# Altium footprint library Connectors.PcbLib: 69 footprints (part 2 of 5)
Each footprint in its own frame and in the unit in brackets; x right, y up, seen from the top. Pads: shape width x height; smd on the part's side, far side on the other; paste and mask are expansions set on the pad; w line width, h text height; cw(c..) or ccw(c..) is an arc to the next point about the centre after c.
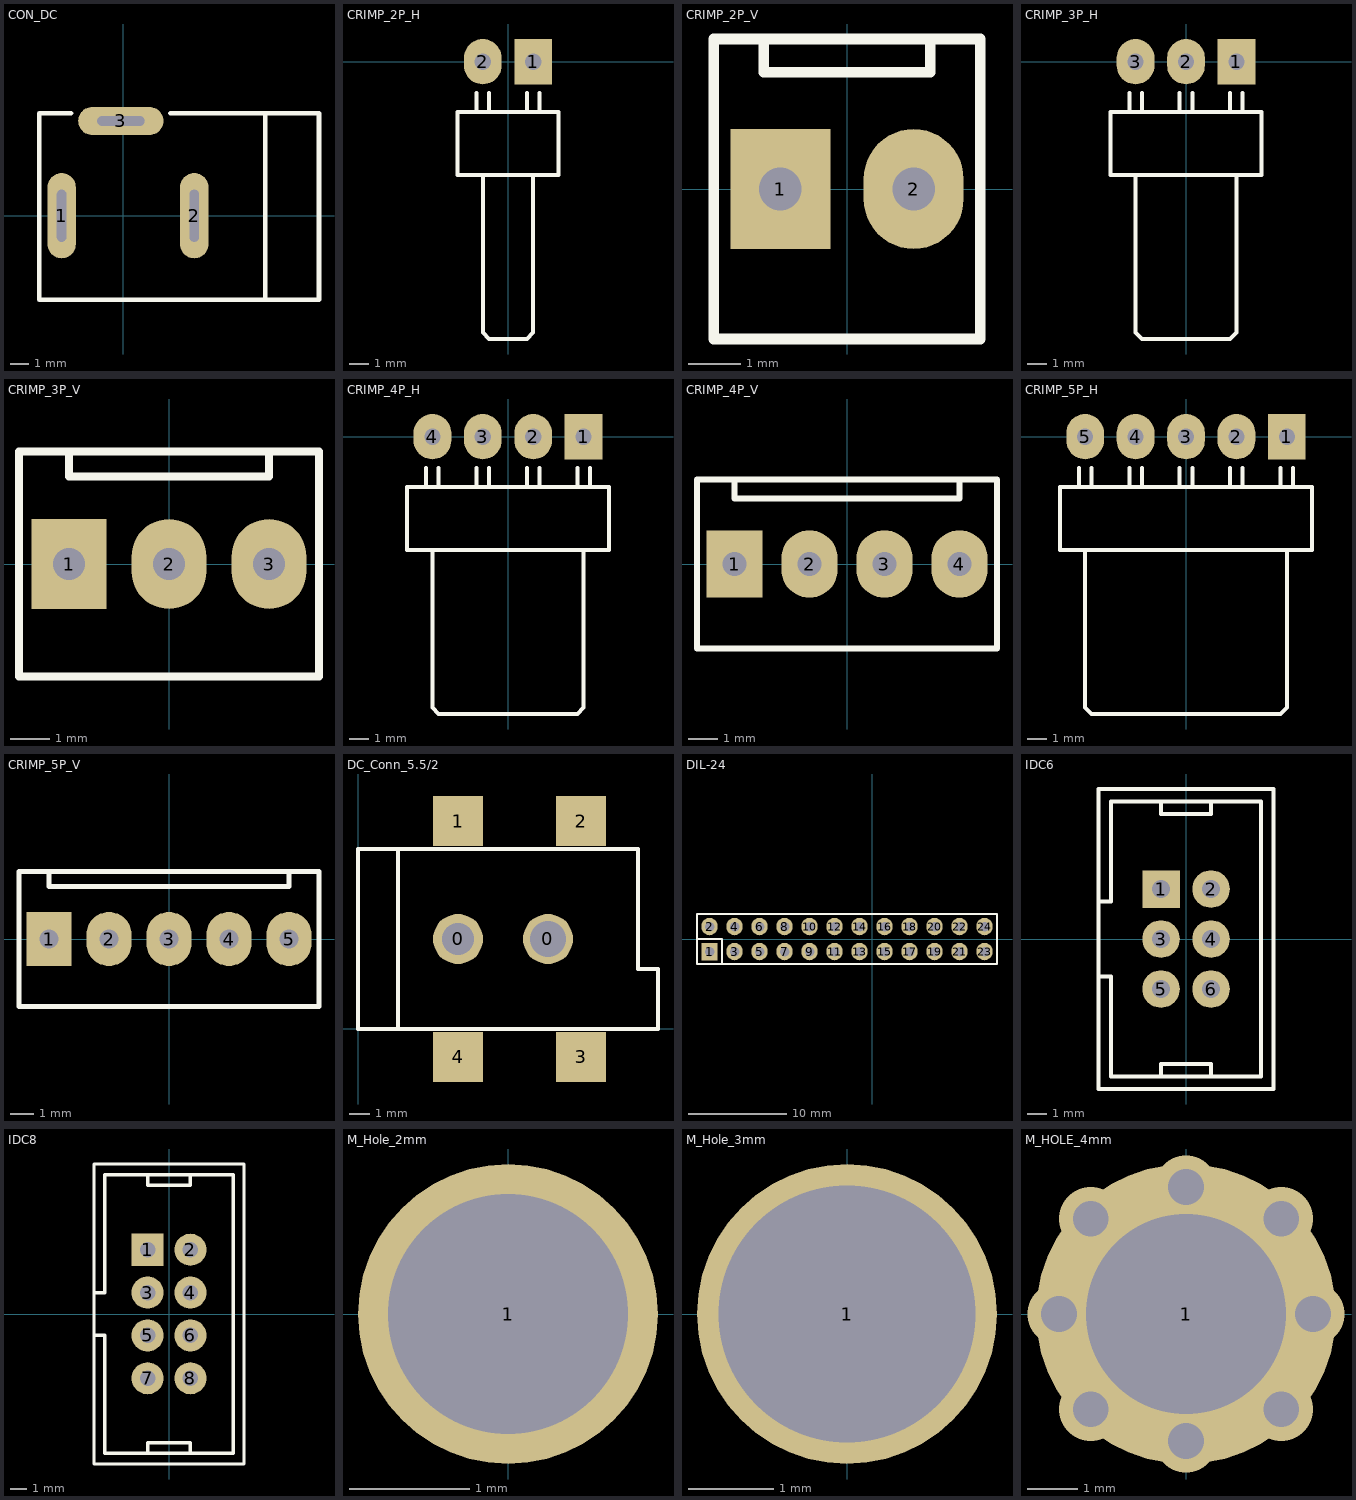
[diagram p1: the footprints below, top view; thin cyan lines are the x and y axes]

## CON_DC [mil] "Konektor DC"
height 450
pads (3):
  oval 60x180 hole 20 slot 110 at 90 deg: 1(-130,0) 2(150,0)
  oval 180x60 hole 20 slot 100 at 0 deg: 3(-5,200)
Top Overlay:
  lines w10: -110,216.54 -177.17,216.54 -177.17,-177.17 413.39,-177.17 413.39,216.54 100,216.54 ; 300,-177.17 300,216.54
3D body "2.1mm_DC_Power_Socket.STEP": height 423.23, standoff -157.48, extent -149.53,-171.89 409.53,210

## CRIMP_2P_H [mil] "Z³¹cze CRIMP 2pin - poziome"
height 230
pads (2):
  rect 75x90 hole 32: 1(50,0)
  oval 75x90 hole 32: 2(-50,0)
Top Overlay:
  lines w8: -62.5,-100 -62.5,-62.5 ; -50,-225 -50,-537.5 -37.5,-550 37.5,-550 50,-537.5 50,-225 ; -37.5,-100 -37.5,-62.5 ; 37.5,-100 37.5,-62.5 ; 62.5,-100 62.5,-62.5 ; -100,-225 -100,-100 100,-100 100,-225 -100,-225

## CRIMP_2P_V [mil] "Gniazdo Crimp 2pin, pionowe"
height 450
pads (2):
  rect 75x90 hole 32: 1(-50,0)
  oval 75x90 hole 32: 2(50,0)
Top Overlay:
  lines w8: -62.5,112.5 -62.5,87.5 62.5,87.5 62.5,112.5 ; -100,-112.5 100,-112.5 100,112.5 -100,112.5 -100,-112.5
3D body: height 437.5, standoff 412.5, extent 37.5,-12.45 62.37,12.45
3D body: height 437.5, standoff 412.5, extent -62.5,-12.45 -37.63,12.45
3D body: height 455, standoff 125, extent -62.5,87.5 62.5,112.5
3D body: height 125, standoff 0, extent -100,-112.5 100,112.5
3D body: height 425, standoff 125, extent -62.5,-12.5 -37.6,12.45
3D body: height 425, standoff 125, extent 37.5,-12.5 62.4,12.45

## CRIMP_3P_H [mil] "Z³acze CRIMP 3pin poziome"
height 230
pads (3):
  rect 75x90 hole 32: 1(100,0)
  oval 75x90 hole 32: 2(0,0) 3(-100,0)
Top Overlay:
  lines w8: -112.5,-100 -112.5,-62.5 ; -100,-225 -100,-537.5 -87.5,-550 87.5,-550 100,-537.5 100,-225 ; -87.5,-100 -87.5,-62.5 ; -12.5,-100 -12.5,-62.5 ; 12.5,-100 12.5,-62.5 ; 87.5,-100 87.5,-62.5 ; 112.5,-100 112.5,-62.5 ; -150,-225 150,-225 150,-100 -150,-100 -150,-225
3D body: height 102.5, standoff 77.5, extent -112.5,-537.5 -87.63,-512.61
3D body: height 102.5, standoff 77.5, extent -12.5,-537.5 12.37,-512.61
3D body: height 102.5, standoff 77.5, extent 87.58,-537.45 112.45,-512.55
3D body: height 102.4, standoff 77.5, extent 87.5,-525 112.45,-225
3D body: height 102.4, standoff 77.5, extent -112.45,-525 -87.5,-225
3D body: height 102.4, standoff 77.5, extent -12.45,-525 12.5,-225
3D body: height 30, standoff 0, extent -100,-550 100,-225
3D body: height 225, standoff 0, extent -150,-225 150,-100

## CRIMP_3P_V [mil] "Z³¹cze CRIMP 2pin pionowe"
height 450
pads (3):
  rect 75x90 hole 32: 1(-100,0)
  oval 75x90 hole 32: 2(0,0) 3(100,0)
Top Overlay:
  lines w8: -100,112.5 -100,87.5 100,87.5 100,112.5 ; -150,-112.5 150,-112.5 150,112.5 -150,112.5 -150,-112.5
3D body: height 455, standoff 125, extent -100,87.5 100,112.5
3D body: height 125, standoff 0, extent -150,-112.5 150,112.5
3D body: height 437.5, standoff 412.5, extent -112.5,-12.45 -87.63,12.45
3D body: height 437.5, standoff 412.5, extent 87.63,-12.39 112.5,12.5
3D body: height 437.5, standoff 412.5, extent -12.37,-12.39 12.5,12.5
3D body: height 425, standoff 125, extent 87.6,-12.45 112.5,12.5
3D body: height 425, standoff 125, extent -112.5,-12.5 -87.6,12.45
3D body: height 425, standoff 125, extent -12.45,-12.5 12.45,12.45

## CRIMP_4P_H [mil] "Z³¹cze CRIMP 4pin poziome"
height 230
pads (4):
  rect 75x90 hole 32: 1(150,0)
  oval 75x90 hole 32: 2(50,0) 3(-50,0) 4(-150,0)
Top Overlay:
  lines w8: -162.5,-100 -162.5,-62.5 ; -150,-225 -150,-537.5 -137.5,-550 137.5,-550 150,-537.5 150,-225 ; -137.5,-100 -137.5,-62.5 ; -62.5,-100 -62.5,-62.5 ; -37.5,-100 -37.5,-62.5 ; 37.5,-100 37.5,-62.5 ; 62.5,-100 62.5,-62.5 ; 137.5,-100 137.5,-62.5 ; 162.5,-100 162.5,-62.5 ; -200,-225 200,-225 200,-100 -200,-100 -200,-225

## CRIMP_4P_V [mil] "Z³acze CRIMP 4pin pionowe"
height 450
pads (4):
  rect 75x90 hole 32: 1(-150,0)
  oval 75x90 hole 32: 2(-50,0) 3(50,0) 4(150,0)
Top Overlay:
  lines w8: -150,112.5 -150,87.5 150,87.5 150,112.5 ; -200,-112.5 -200,112.5 200,112.5 200,-112.5 -200,-112.5

## CRIMP_5P_H [mil] "Z³¹cze CRIMP 5pin poziome"
height 230
pads (5):
  rect 75x90 hole 32: 1(200,0)
  oval 75x90 hole 32: 2(100,0) 3(0,0) 4(-100,0) 5(-200,0)
Top Overlay:
  lines w8: -212.5,-100 -212.5,-62.5 ; -200,-225 -200,-537.5 -187.5,-550 187.5,-550 200,-537.5 200,-225 ; -187.5,-100 -187.5,-62.5 ; -112.5,-100 -112.5,-62.5 ; -87.5,-100 -87.5,-62.5 ; -12.5,-100 -12.5,-62.5 ; 12.5,-100 12.5,-62.5 ; 87.5,-100 87.5,-62.5 ; 112.5,-100 112.5,-62.5 ; 187.5,-100 187.5,-62.5 ; 212.5,-100 212.5,-62.5 ; -250,-225 -250,-100 250,-100 250,-225 -250,-225

## CRIMP_5P_V [mil] "Z³acze CRIMP 5pin pionowe"
height 450
pads (5):
  rect 75x90 hole 32: 1(-200,0)
  oval 75x90 hole 32: 2(-100,0) 3(0,0) 4(100,0) 5(200,0)
Top Overlay:
  lines w8: -200,112.5 -200,87.5 200,87.5 200,112.5 ; -250,-112.5 -250,112.5 250,112.5 250,-112.5 -250,-112.5

## DC_Conn_5.5/2 [mm] "DC Connector 5.5/2mm - Wurth Elektronik"
height 11
pads (6):
  round 2.5 hole 1.6 mask+0.08: 0(5,4.5)
  round 2.5 hole 1.8 mask+0.08: 0(9.5,4.5)
  rect 2.5x2.5 smd mask+0.08: 1(5,10.4) 2(11.15,10.4) 3(11.15,-1.4) 4(5,-1.4)
Top Overlay:
  lines w0.2: 2,0 2,9 ; 0,0 15,0 15,3 14,3 14,9 0,9 0,0

## DIL-24 [mil] "Z³acze 24 pin dwie linie, pionowe"
height 15748.03
pads (24):
  rect 65x70 hole 38: 1(-650,-50)
  oval 65x70 hole 38: 2(-650,50) 3(-550,-50) 4(-550,50) 5(-450,-50) 6(-450,50) 7(-350,-50) 8(-350,50) 9(-250,-50) 10(-250,50) 11(-150,-50) 12(-150,50) 13(-50,-50) 14(-50,50) 15(50,-50) 16(50,50) 17(150,-50) 18(150,50) 19(250,-50) 20(250,50) 21(350,-50) 22(350,50) 23(450,-50) 24(450,50)
Top Overlay:
  lines w8: -700,0 -600,0 -600,-100 ; -700,-100 -700,100 500,100 500,-100 -700,-100

## IDC6 [mil] "IDC Connector - 6pin Vertical"
height 400
pads (6):
  rect 75x75 hole 36: 1(-50,100)
  round 75 hole 36: 2(50,100) 3(-50,0) 4(50,0) 5(-50,-100) 6(50,-100)
Top Overlay:
  lines w8: -175,-75 -150,-75 -150,-275 150,-275 150,275 -150,275 -150,75 -175,75 ; -50,-275 -50,-250 50,-250 50,-275 ; -50,275 -50,250 50,250 50,275 ; -175,-300 175,-300 175,300 -175,300 -175,150 -175,-50 -175,-300
3D body "IDC_6.STEP": height 359.27, standoff -121.05, extent -175,-300 197.05,300

## IDC8 [mil] "IDC Connector - 8pin Vertical"
pads (8):
  rect 75x75 hole 36: 1(-50,150)
  round 75 hole 36: 2(50,150) 3(-50,50) 4(50,50) 5(-50,-50) 6(50,-50) 7(-50,-150) 8(50,-150)
Top Overlay:
  lines w8: -175,-50 -150,-50 -150,-325 150,-325 150,325 -150,325 -150,50 -175,50 ; -50,-325 -50,-300 50,-300 50,-325 ; -50,325 -50,300 50,300 50,325 ; -175,-350 175,-350 175,350 -175,350 -175,200 -175,0 -175,-350

## M_Hole_2mm [mm] "Mounting Hole Dia 2mm"
pads (1):
  round 2.5 hole 2 mask+0.08: 1(0,0)

## M_Hole_3mm [mm] "Mounting Hole 3mm"
pads (1):
  round 3.5 hole 3 mask+0.08: 1(0,0)

## M_HOLE_4mm [mm] "Mounting Hole 4mm w/via"
pads (1):
  round 6 hole 4 mask+0.08: 1(0,0)
via 1.905,-1.905 diameter 1.27 hole 0.711
via 1.905,1.905 diameter 1.27 hole 0.711
via -1.905,-1.905 diameter 1.27 hole 0.711
via -1.905,1.905 diameter 1.27 hole 0.711
via -2.54,0 diameter 1.27 hole 0.711
via 0,-2.54 diameter 1.27 hole 0.711
via 2.54,0 diameter 1.27 hole 0.711
via 0,2.54 diameter 1.27 hole 0.711